# EAGLE library part CN_DIN41612F (library lieBtrau)
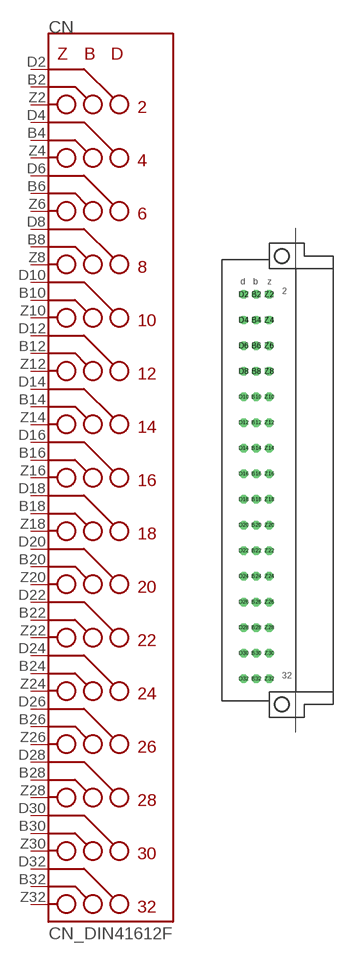
[diagram p10: symbol with the pads of CN_HDR_DIN41612F_90D; footprint CN_HDR_DIN41612F_90D]

Designator prefix CN

## CN_DIN41612F_HDR_90D_ (COST: 4.81; ORDERCODE: RS 681-1777; VALUE: TE 2-164045-4)  [CN_HDR_DIN41612F_90D]
B2  2B
B4  4B
B6  6B
B8  8B
B10  10B
B12  12B
B14  14B
B16  16B
B18  18B
B20  20B
B22  22B
B24  24B
B26  26B
B28  28B
B30  30B
B32  32B
D2  2D
D4  4D
D6  6D
D8  8D
D10  10D
D12  12D
D14  14D
D16  16D
D18  18D
D20  20D
D22  22D
D24  24D
D26  26D
D28  28D
D30  30D
D32  32D
Z2  2Z
Z4  4Z
Z6  6Z
Z8  8Z
Z10  10Z
Z12  12Z
Z14  14Z
Z16  16Z
Z18  18Z
Z20  20Z
Z22  22Z
Z24  24Z
Z26  26Z
Z28  28Z
Z30  30Z
Z32  32Z

## Footprint CN_HDR_DIN41612F_90D (pad centres in mm)
CONNECTOR male, 48 pins, type F, rows BDZ, grid 2.54
drill 1.118 octagon: B2 -5.08,36.83; B4 -5.08,31.75; B6 -5.08,26.67; B8 -5.08,21.59; B10 -5.08,16.51; B12 -5.08,11.43; B14 -5.08,6.35; B16 -5.08,1.27; B18 -5.08,-3.81; B20 -5.08,-8.89; B22 -5.08,-13.97; B24 -5.08,-19.05; B26 -5.08,-24.13; B28 -5.08,-29.21; B30 -5.08,-34.29; B32 -5.08,-39.37; D2 -7.62,36.83; D4 -7.62,31.75; D6 -7.62,26.67; D8 -7.62,21.59; D10 -7.62,16.51; D12 -7.62,11.43; D14 -7.62,6.35; D16 -7.62,1.27; D18 -7.62,-3.81; D20 -7.62,-8.89; D22 -7.62,-13.97; D24 -7.62,-19.05; D26 -7.62,-24.13; D28 -7.62,-29.21; D30 -7.62,-34.29; D32 -7.62,-39.37; Z2 -2.54,36.83; Z4 -2.54,31.75; Z6 -2.54,26.67; Z8 -2.54,21.59; Z10 -2.54,16.51; Z12 -2.54,11.43; Z14 -2.54,6.35; Z16 -2.54,1.27; Z18 -2.54,-3.81; Z20 -2.54,-8.89; Z22 -2.54,-13.97; Z24 -2.54,-19.05; Z26 -2.54,-24.13; Z28 -2.54,-29.21; Z30 -2.54,-34.29; Z32 -2.54,-39.37
hole 2.794 at 0,44.45
hole 2.794 at 0,-44.45